# EAGLE library part ARTIK-053S (library ClintonLib)
Artik 053s WiFi Microcontroller ARM Cortex R4, 320 MHz, 1.4 MB RAM, 8 MB Flash, 5-12 Vin, ~1.8 W Max ADC 1.8 V max, GPIO Voh Min = 2.64 V, Vol Max = 0.66 V Digikey <https://www.digikey.com/products/en/rf-if-and-rfid/rf-transceiver-modules/872?k=artik%20053s> Mouser <https://www.mouser.com/ProductDetail/Samsung-ARTIK/SIP-0P5WRS302?qs=%2fha2pyFaduggSA7OC5pve%252blX1SxdiYYXa2zgeNwjPg3eHGY96TOSTLaXdOBjNLjU> Datasheet <https://media.digikey.com/pdf/Data%20Sheets/Samsung%20PDFs/ARTIK_053_053s_DS_11-23-17.pdf>
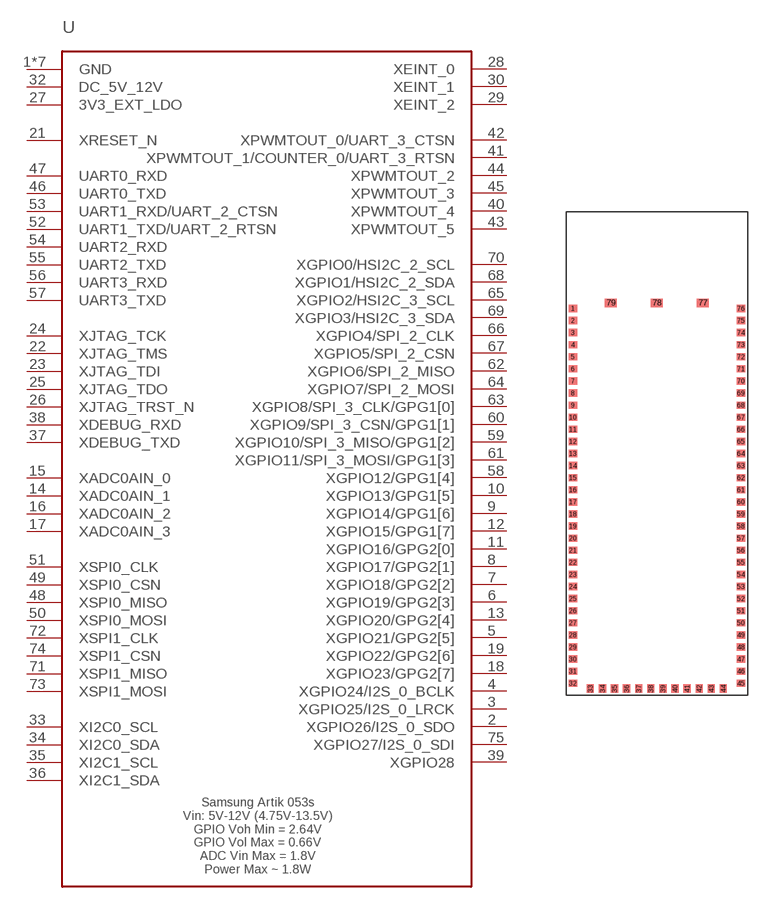
[diagram p19: symbol with the pads of ARTIK-053S; footprint ARTIK-053S]

Designator prefix -

## ARTIK-053S  [ARTIK-053S]
1  GND
2  XGPIO26/I2S_0_SDO
3  XGPIO25/I2S_0_LRCK
4  XGPIO24/I2S_0_BCLK
5  XGPIO21/GPG2[5]
6  XGPIO19/GPG2[3]
7  XGPIO18/GPG2[2]
8  XGPIO17/GPG2[1]
9  XGPIO14/GPG1[6]
10  XGPIO13/GPG1[5]
11  XGPIO16/GPG2[0]
12  XGPIO15/GPG1[7]
13  XGPIO20/GPG2[4]
14  XADC0AIN_1
15  XADC0AIN_0
16  XADC0AIN_2
17  XADC0AIN_3
18  XGPIO23/GPG2[7]
19  XGPIO22/GPG2[6]
20  GND
21  XRESET_N
22  XJTAG_TMS
23  XJTAG_TDI
24  XJTAG_TCK
25  XJTAG_TDO
26  XJTAG_TRST_N
27  3V3_EXT_LDO
28  XEINT_0
29  XEINT_2
30  XEINT_1
31  GND
32  DC_5V_12V
33  XI2C0_SCL
34  XI2C0_SDA
35  XI2C1_SCL
36  XI2C1_SDA
37  XDEBUG_TXD
38  XDEBUG_RXD
39  XGPIO28
40  XPWMTOUT_4
41  XPWMTOUT_1/COUNTER_0/UART_3_RTSN
42  XPWMTOUT_0/UART_3_CTSN
43  XPWMTOUT_5
44  XPWMTOUT_2
45  XPWMTOUT_3
46  UART0_TXD
47  UART0_RXD
48  XSPI0_MISO
49  XSPI0_CSN
50  XSPI0_MOSI
51  XSPI0_CLK
52  UART1_TXD/UART_2_RTSN
53  UART1_RXD/UART_2_CTSN
54  UART2_RXD
55  UART2_TXD
56  UART3_RXD
57  UART3_TXD
58  XGPIO12/GPG1[4]
59  XGPIO10/SPI_3_MISO/GPG1[2]
60  XGPIO9/SPI_3_CSN/GPG1[1]
61  XGPIO11/SPI_3_MOSI/GPG1[3]
62  XGPIO6/SPI_2_MISO
63  XGPIO8/SPI_3_CLK/GPG1[0]
64  XGPIO7/SPI_2_MOSI
65  XGPIO2/HSI2C_3_SCL
66  XGPIO4/SPI_2_CLK
67  XGPIO5/SPI_2_CSN
68  XGPIO1/HSI2C_2_SDA
69  XGPIO3/HSI2C_3_SDA
70  XGPIO0/HSI2C_2_SCL
71  XSPI1_MISO
72  XSPI1_CLK
73  XSPI1_MOSI
74  XSPI1_CSN
75  XGPIO27/I2S_0_SDI
76  GND
77  GND
78  GND
79  GND

## Footprint ARTIK-053S (pad centres in mm)
Artik 053s WiFi Microcontroller ARM Cortex R4, 320 MHz, 1.4 MB RAM, 8MB Flash, 5-12Vin Digikey <https://www.digikey.com/products/en/rf-if-and-rfid/rf-transceiver-modules/872?k=artik%20053s> Mouser <https://www.mouser.com/ProductDetail/Samsung-ARTIK/SIP-0P5WRS302?qs=%2fha2pyFaduggSA7OC5pve%252blX1SxdiYYXa2zgeNwjPg3eHGY96TOSTLaXdOBjNLjU> Datasheet <https://media.digikey.com/pdf/Data%20Sheets/Samsung%20PDFs/ARTIK_053_053s_DS_11-23-17.pdf>
smd 0.7 x 0.6: 1 0.55,32; 2 0.55,31; 3 0.55,30; 4 0.55,29; 5 0.55,28; 6 0.55,27; 7 0.55,26; 8 0.55,25; 9 0.55,24; 10 0.55,23; 11 0.55,22; 12 0.55,21; 13 0.55,20; 14 0.55,19; 15 0.55,18; 16 0.55,17; 17 0.55,16; 18 0.55,15; 19 0.55,14; 20 0.55,13; 21 0.55,12; 22 0.55,11; 23 0.55,10; 24 0.55,9; 25 0.55,8; 26 0.55,7; 27 0.55,6; 28 0.55,5; 29 0.55,4; 30 0.55,3; 31 0.55,2; 32 0.55,1; 45 14.45,1; 46 14.45,2; 47 14.45,3; 48 14.45,4; 49 14.45,5; 50 14.45,6; 51 14.45,7; 52 14.45,8; 53 14.45,9; 54 14.45,10; 55 14.45,11; 56 14.45,12; 57 14.45,13; 58 14.45,14; 59 14.45,15; 60 14.45,16; 61 14.45,17; 62 14.45,18; 63 14.45,19; 64 14.45,20; 65 14.45,21; 66 14.45,22; 67 14.45,23; 68 14.45,24; 69 14.45,25; 70 14.45,26; 71 14.45,27; 72 14.45,28; 73 14.45,29; 74 14.45,30; 75 14.45,31; 76 14.45,32
smd 0.6 x 0.7: 33 2,0.55; 34 3,0.55; 35 4,0.55; 36 5,0.55; 37 6,0.55; 38 7,0.55; 39 8,0.55; 40 9,0.55; 41 10,0.55; 42 11,0.55; 43 12,0.55; 44 13,0.55
smd 1 x 0.7: 77 11.3,32.45; 78 7.5,32.45; 79 3.7,32.45